# Altium footprint library PcbLib1.PcbLib: 23 footprints (part 1 of 2)
Each footprint in its own frame and in the unit in brackets; x right, y up, seen from the top. Pads: shape width x height; smd on the part's side, far side on the other; paste and mask are expansions set on the pad; w line width, h text height; cw(c..) or ccw(c..) is an arc to the next point about the centre after c.
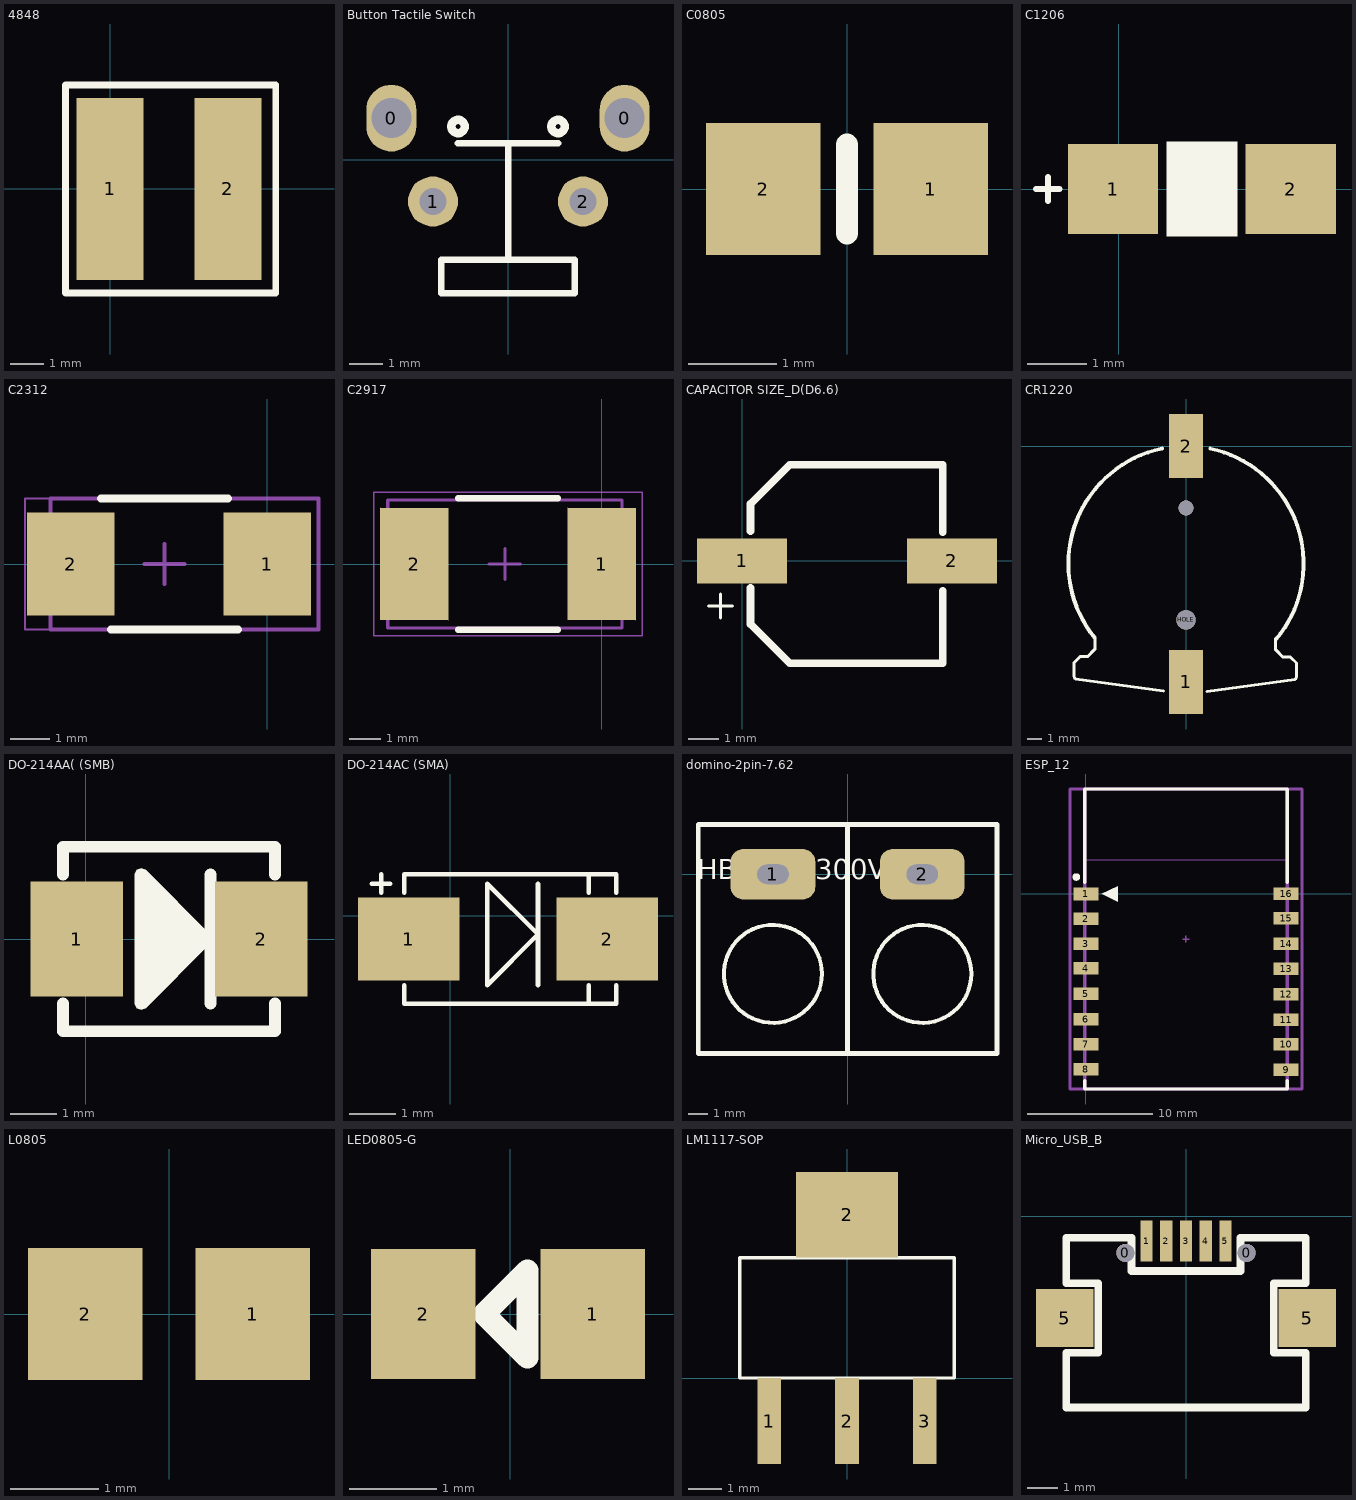
[diagram p0: the footprints below, top view; thin cyan lines are the x and y axes]

## 4848 [mm]
pads (2):
  rect 2x5.4 smd: 1(0,0) 2(3.5,0)
Top Overlay:
  lines w0.2: -1.32,-3.09 -1.32,3.08 4.92,3.08 4.92,-3.09 -1.32,-3.09
3D body "User Library-CDRH4D28.STEP": height 2.91, standoff 0, extent -0.7,-2.4 4.2,2.5

## Button Tactile Switch [mm]
height 0.85
pads (4):
  oval 1.5x2 hole 1.2: 0(-3.5,1.25) 0(3.5,1.25)
  round 1.5 hole 0.8: 1(-2.25,-1.25) 2(2.25,-1.25)
Top Overlay:
  circle w0.254: c-1.5,1 r0.2
  circle w0.254: c1.5,1 r0.2
  lines w0.2: -1.5,0.5 1.5,0.5 ; 0.008,-3 0.008,0.5 ; -2,-4 -2,-3 2,-3 2,-4 -2,-4
3D body "43392.stp": height 7.4, standoff -3.5, extent -4.25,-4.85 4.25,3.05

## C0805 [mm] "Chip Capacitor; Body 2.0 x 1.2 mm (LxW typ)"
height 1.1
pads (2):
  rect 1.3x1.5 smd: 1(0.95,0) 2(-0.95,0)
Top Overlay:
  lines w0.254: 0,-0.5 0,0.5
3D body "SW3dPS-0805 SMD Capacitor.STEP": height 0.78, standoff 0, extent -1.016,-0.635 0.984,0.615

## C1206 [mil]
pads (2):
  rect 60x60 smd: 1(-3.93,0) 2(114.18,0)
Top Overlay:
  rectangle: 31.5,-31.5 78.74,31.5
  lines w3.94: -55.12,0 -39.37,0 ; -47.19,-7.87 -47.19,7.87
3D body "cap_a.step": height 63.39, standoff 0, extent -7.69,-31.5 117.93,31.5

## C2312 [mm] "Chip Capacitor, 2-Leads, Body 7.30x4.30mm, IPC Medium Density"
height 3.1
pads (2):
  rect 2.2x2.6 smd: 1(0,0) 2(-4.953,0)
Top Overlay:
  lines w0.2: -4.191,1.651 -0.991,1.651 ; -3.937,-1.651 -0.737,-1.651
Mechanical 13:
  lines w0.1: -5.461,-1.651 1.285,-1.651 1.285,1.651 -5.461,1.651 -5.461,-1.651
Mechanical 15:
  lines w0.05: -6.096,-1.651 1.27,-1.651 1.27,1.651 -6.096,1.651 -6.096,-1.651
  lines w0.1: -3.092,0 -2.092,0 ; -2.592,-0.5 -2.592,0.5
3D body "User Library-AVX_C_CASE.STEP": height 2.7, standoff 0, extent -5.59,-1.675 0.51,1.675

## C2917 [mm] "Chip Capacitor, 2-Leads, Body 7.30x4.30mm, IPC Medium Density"
height 3.1
pads (2):
  rect 2.2x3.6 smd: 1(0,0) 2(-6,0)
Top Overlay:
  lines w0.2: -4.6,-2.1 -1.4,-2.1 ; -4.6,2.1 -1.4,2.1
Mechanical 13:
  lines w0.1: -6.85,-2.05 -6.85,2.05 0.65,2.05 0.65,-2.05 -6.85,-2.05
Mechanical 15:
  lines w0.05: -7.3,-2.3 -7.3,2.3 1.3,2.3 1.3,-2.3 -7.3,-2.3
  lines w0.1: -3.6,0 -2.6,0 ; -3.1,-0.5 -3.1,0.5
3D body "User Library-AVX_D_CASE.STEP": height 3.01, standoff 0, extent -6.7,-2.225 0.7,2.225

## CAPACITOR SIZE_D(D6.6) [mm]
pads (2):
  rect 3x1.5 smd: 1(0,0) 2(6.981,0)
Top Overlay:
  lines w0.1: -1.119,-1.5 -0.319,-1.5 ; -0.719,-1.9 -0.719,-1.1
  lines w0.254: 0.281,-0.9 0.281,-2.1 1.581,-3.4 6.681,-3.4 6.681,-0.999 ; 0.281,1 0.281,1.9 1.581,3.2 6.681,3.2 6.681,0.95
3D body "SW3dPS-capacitor size D.STEP": height 5.41, standoff -0.01, extent -0.019,-3.4 6.981,3.2

## CR1220 [mm]
pads (4):
  rect 2.3x4.3 smd: 1(0,-15.79) 2(0,0)
  round 1.3 hole 1.3: HOLE(0,-11.64)
  round 1 hole 1: HOLE(0,-4.14)
Top Overlay:
  lines w0.2: -6.109,-12.845 -6.109,-13.609 -6.6,-14.1 -7.1,-14.1 -7.5,-14.5 -7.5,-15.359 ccw(c-7.159,-15.359) -7.4,-15.6 -1.5,-16.4 ; 1.4,-16.432 7.3,-15.632 ccw(c7.059,-15.391) 7.4,-15.391 7.4,-14.532 7,-14.132 6.5,-14.132 6.009,-13.641 6.009,-12.877
  lines w0.254: -6.109,-12.845 cw(c0,-7.875) -1.595,-0.163 ; 1.622,-0.169 cw(c0,-7.875) 6.037,-12.931
3D body "User Library-cr1220.STEP": height 4.94, standoff 0, extent -7.297,-17.15 7.7,1.35

## DO-214AA( (SMB) [mm]
height 2.54
pads (2):
  rect 2x2.5 smd: 1(-0.2,0) 2(3.796,0)
Top Overlay:
  region: 1.296,1.496 2.695,0.097 2.735,0 2.695,-0.097 1.296,-1.496 1.268,-1.508 1.199,-1.536 1.102,-1.496 1.061,-1.399 1.061,1.399 1.102,1.496 1.199,1.536
  lines w0.254: -0.5,-1.399 -0.5,-1.998 4.096,-1.998 4.096,-1.399 ; -0.5,1.399 -0.5,1.998 4.096,1.998 4.096,1.399 ; 2.697,-1.399 2.697,1.399
Mechanical 3:
  lines w0.102: 1.333,0 ccw(c1.651,0) 1.651,-0.318 ccw(c1.651,0) 1.968,0 ccw(c1.651,0) 1.651,0.318 ccw(c1.651,0) 1.333,0
3D body "DO-214AA SMB.step": height 2.3, standoff 0, extent -0.9,-1.8 4.5,1.8

## DO-214AC (SMA) [mm]
height 2.54
pads (2):
  rect 2.2x1.8 smd: 1(-0.899,-0.5) 2(3.397,-0.5)
Top Overlay:
  lines w0.1: -1.698,0.699 -1.299,0.699 ; -1.499,0.5 -1.499,0.899 ; -0.999,-1.499 -0.999,-1.898 3.597,-1.898 3.597,-1.499 ; -0.999,0.5 -0.999,0.9 ; -0.999,0.899 3.597,0.899 ; 0.799,0.686 0.799,-1.499 1.898,-0.4 0.799,0.699 ; 1.898,-1.499 1.898,0.699 ; 2.997,-1.898 2.997,-1.499 ; 2.997,0.5 2.997,0.9 ; 3.597,0.5 3.597,0.9
3D body "DO-214AC SMA.step": height 2.3, standoff -0.1, extent -1.3,-1.8 3.9,0.8

## domino-2pin-7.62 [mm] "domino-2pin-7.62"
pads (2):
  rrect50% 4.318x2.588 hole 1 slot 1.6 at 0 deg: 1(-3.81,0) 2(3.81,0)
Top Overlay:
  circle w0.203: c-3.81,-5.08 r2.5
  circle w0.203: c3.81,-5.08 r2.5
  lines w0.254: 0,-9.144 0,2.54 ; 7.62,-9.144 7.62,-7.62 ; 7.62,-9.144 -7.62,-9.144 -7.62,2.54 7.62,2.54 ; 7.62,-9.144 7.62,2.54 ; 7.62,-7.62 7.62,2.54 ; 7.62,-7.62 7.62,2.54
  text "HB9500 300V-20A" at -7.683,-0.254 h1.02

## ESP_12 [mm] "ESP-12 Wi-Fi Module by AI-Thinker"
pads (16):
  rect 2x1 smd: 1(0,0) 2(0,-1.97) 3(0,-3.97) 4(0,-5.94) 5(0,-7.98) 6(0,-9.99) 7(0,-11.98) 8(0,-13.99) 9(16,-14.03) 10(16,-11.99) 11(16,-10.03) 12(16,-8.01) 13(16,-5.95) 14(16,-3.97) 15(16,-1.95) 16(16,0.03)
Top Overlay:
  circle w0.3: c-0.762,1.356 r0.15
  region: 1.27,0 2.54,-0.635 2.54,0.635
  lines w0.254: -0.084,-14.916 -0.084,-15.568 16.084,-15.568 16.084,-14.916 ; -0.084,0.916 -0.084,8.371 16.084,8.371 16.084,0.916
Mechanical 13:
  lines w0.051: -0.127,2.727 16.129,2.727 16.129,8.382 -0.127,8.382 -0.127,2.727
  lines w0.254: -0.084,-15.568 -0.084,8.371 16.084,8.371 16.084,-15.568 -0.084,-15.568
  text "ANTENNA AREA" at 0.127,7.874 h0.7
  text "CUTOUT POLYGON" at 0.127,7.366 h0.7
Mechanical 15:
  lines w0.1: 7.746,-3.598 8.254,-3.598 ; 8,-3.852 8,-3.344
  lines w0.254: -1.27,-15.568 17.272,-15.568 17.272,8.371 -1.27,8.371 -1.27,-15.568
3D body "ESP_12_E.STEP": height 2.75, standoff 0.04, extent 0.001,-15.491 16.001,8.509

## L0805 [mm] "Chip Resistor; Body 2.0 x 1.2 mm (LxW typ)"
height 1.1
pads (2):
  rect 1.3x1.5 smd: 1(0.95,0) 2(-0.95,0)
3D body "INDC2012X105N EIA 0805.step": height 1.05, standoff 0, extent -1,-0.6 1,0.6

## LED0805-G [mm] "Chip Diode; Body 2.0 x 1.3 mm (LxW typ)"
height 1.1
pads (2):
  rect 1.2x1.5 smd: 1(0.95,0) 2(-1,0)
Top Overlay:
  lines w0.254: -0.3,0 0.2,-0.5 0.2,0.5 -0.3,0
3D body "LED GREEN 0805.step": height 1.1, standoff -0.01, extent -1.016,-0.635 1.016,0.635

## LM1117-SOP [mm]
pads (4):
  rect 0.7x2.54 smd: 1(-2.3,-1.27) 2(0,-1.27) 3(2.3,-1.27)
  rect 3x2.54 smd: 2(0,4.826)
Top Overlay:
  lines w0.1: -3.175,0 -3.175,3.556 3.175,3.556 3.175,0 -3.175,0
3D body "SW3DPS-SOT-223-DEFAULT.step": height 1.68, standoff 0, extent -3.25,-1.778 3.25,5.182

## Micro_USB_B [mm]
pads (9):
  round 0.6 hole 0.6: 0(-2,-1.2) 0(2,-1.2)
  rect 0.4x1.35 smd: 1(-1.3,-0.81) 2(-0.65,-0.815) 3(0,-0.81) 4(0.65,-0.81) 5(1.3,-0.81)
  rect 1.9x1.9 smd: 5(-4,-3.35) 5(4,-3.35)
Top Overlay:
  lines w0.254: -3.95,-6.3 3.95,-6.3 3.95,-4.5 2.9,-4.5 2.9,-2.2 3.95,-2.2 3.95,-0.7 1.8,-0.7 1.8,-1.8 -1.8,-1.8 -1.8,-0.7 -3.95,-0.7 -3.95,-2.2 -2.9,-2.2 -2.9,-4.5 -3.95,-4.5 -3.95,-6.3
3D body "User Library-Micro USB.STEP": height 2.67, standoff -0.27, extent -3.99,-6.28 3.99,-0.85